# Altium footprint library 2200980271.PcbLib: 1 footprints
Each footprint in its own frame and in the unit in brackets; x right, y up, seen from the top. Pads: shape width x height; smd on the part's side, far side on the other; paste and mask are expansions set on the pad; w line width, h text height; cw(c..) or ccw(c..) is an arc to the next point about the centre after c.
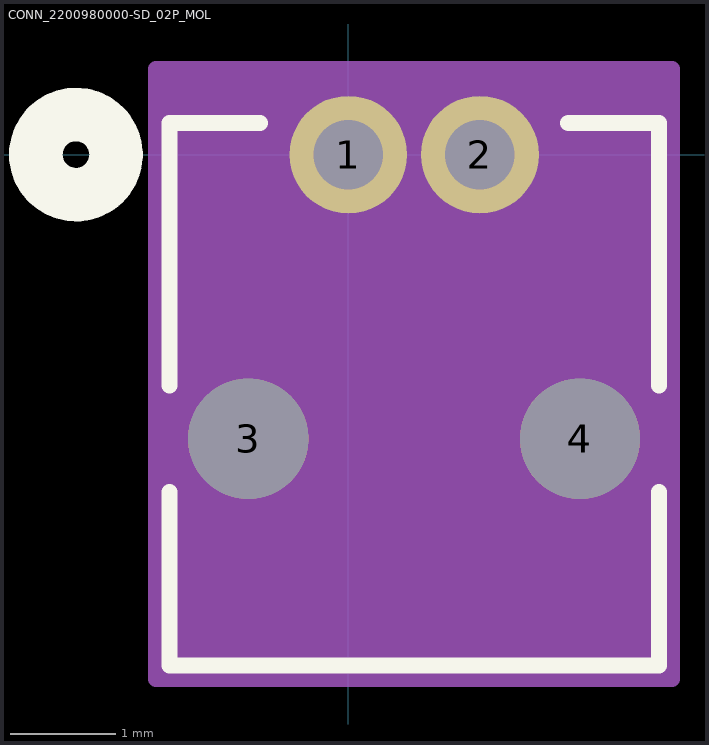
[diagram p0: the footprint, top view; thin cyan lines are the x and y axes]

## CONN_2200980000-SD_02P_MOL [mil]
pads (4):
  round 44 hole 26 paste-99999 mask+0: 1(0,0) 2(49.21,0)
  round 45 hole 45 unplated paste-99999 mask+0: 3(-37.4,-106.3) 4(86.61,-106.3)
Top Overlay:
  circle w20: c-101.89,0 r15
  lines w6: -66.89,-126.24 -66.89,-191.11 116.11,-191.11 116.11,-126.24 ; -66.89,-86.36 -66.89,11.89 -33.02,11.89 ; 82.24,11.89 116.11,11.89 116.11,-86.36
  text ".Designator" at -112.89,-25 h50
Bottom Overlay:
  circle w20: c-101.89,0 r15
Mechanical 13:
  circle w20: c0,0 r15
  lines w1: -61.89,-186.11 -61.89,6.89 111.11,6.89 111.11,-186.11 -61.89,-186.11
  text ".Designator" at -112.89,-25 h50
Mechanical 15:
  region: 121.11,32 -71.89,32 -71.89,-196.11 121.11,-196.11
  lines w6: -71.89,-196.11 121.11,-196.11 121.11,32 -71.89,32 -71.89,-196.11
3D body "2200980271.stp": height 140.26, standoff -101.86, extent -61.61,-187.52 111.61,5